# EAGLE library part HEADER_1X10 (library logic-supply)
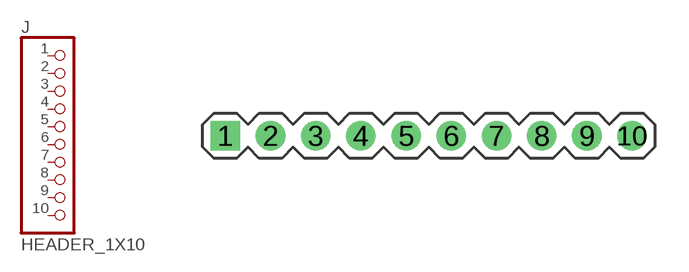
[diagram p48: symbol with the pads of HEADER_1X10_2MM; footprint HEADER_1X10_2MM]

Designator prefix J

## HEADER_1X10-2MM  [HEADER_1X10_2MM]
1  1  pas
2  2  pas
3  3  pas
4  4  pas
5  5  pas
6  6  pas
7  7  pas
8  8  pas
9  9  pas
10  10  pas

## Footprint HEADER_1X10_2MM (pad centres in mm)
drill 0.8 square: 1 0,0
drill 0.8: 2 2,0; 3 4,0; 4 6,0; 5 8,0; 6 10,0; 7 12,0; 8 14,0; 9 16,0; 10 18,0